# EAGLE library part ARM-PRO-MINI (library arm-pro-mini-tester)
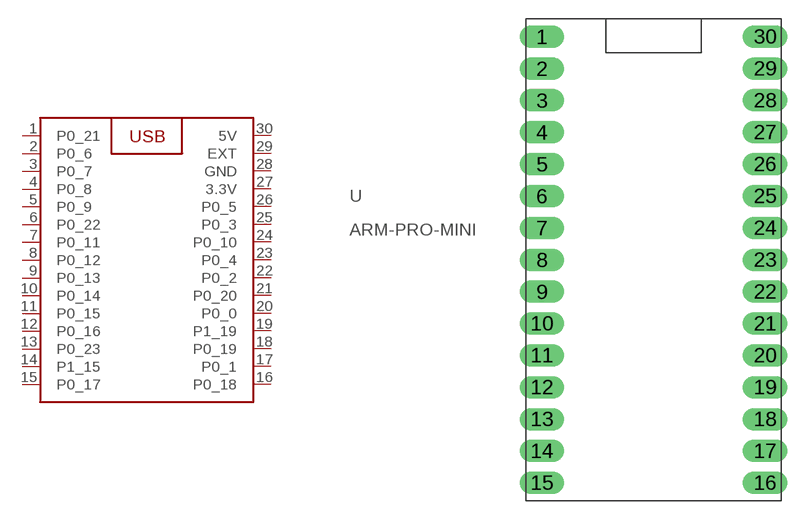
[diagram p0: symbol with the pads of ARM-PRO-MINI; footprint ARM-PRO-MINI]

Designator prefix -

## ARM-PRO-MINI  [ARM-PRO-MINI]
1  P0_21  pas
2  P0_6  pas
3  P0_7  pas
4  P0_8  pas
5  P0_9  pas
6  P0_22  pas
7  P0_11  pas
8  P0_12  pas
9  P0_13  pas
10  P0_14  pas
11  P0_15  pas
12  P0_16  pas
13  P0_23  pas
14  P1_15  pas
15  P0_17  pas
16  P0_18  pas
17  P0_1  pas
18  P0_19  pas
19  P1_19  pas
20  P0_0  pas
21  P0_20  pas
22  P0_2  pas
23  P0_4  pas
24  P0_10  pas
25  P0_3  pas
26  P0_5  pas
27  3.3V  pas
28  GND  pas
29  EXT  pas
30  5V  pas

## Footprint ARM-PRO-MINI (pad centres in mm)
drill 1.016 pad 1.778 long: 1 -7.62,5.08; 2 -7.62,2.54; 3 -7.62,0; 4 -7.62,-2.54; 5 -7.62,-5.08; 6 -7.62,-7.62; 7 -7.62,-10.16; 8 -7.62,-12.7; 9 -7.62,-15.24; 10 -7.62,-17.78; 11 -7.62,-20.32; 12 -7.62,-22.86; 13 -7.62,-25.4; 14 -7.62,-27.94; 15 -7.62,-30.48; 16 10.16,-30.48; 17 10.16,-27.94; 18 10.16,-25.4; 19 10.16,-22.86; 20 10.16,-20.32; 21 10.16,-17.78; 22 10.16,-15.24; 23 10.16,-12.7; 24 10.16,-10.16; 25 10.16,-7.62; 26 10.16,-5.08; 27 10.16,-2.54; 28 10.16,0; 29 10.16,2.54; 30 10.16,5.08